# Altium schematic symbol library USB2.0_HUB_CONN.SchLib: 7 symbols
Pins are listed as number, name and electrical type; pins without a type are passive.

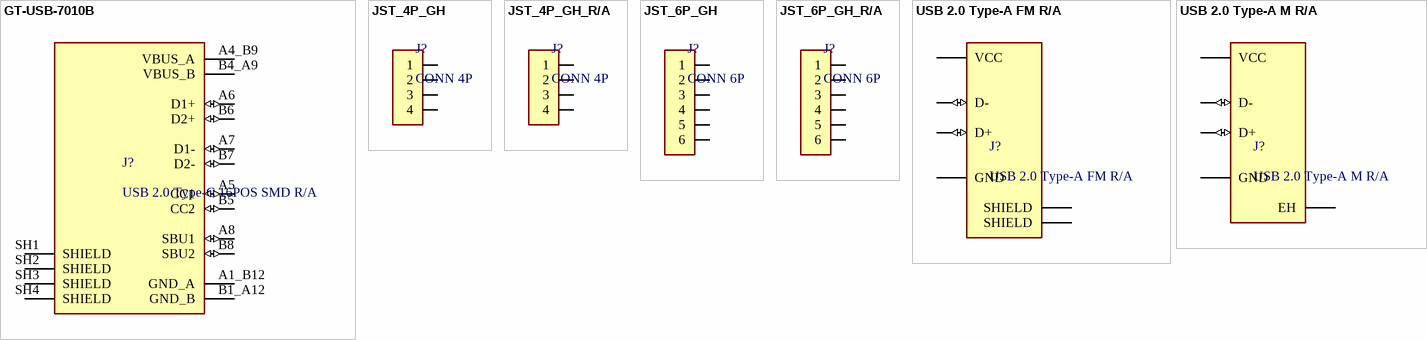
[diagram p0: symbols GT-USB-7010B to USB 2.0 Type-A M R/A]

## GT-USB-7010B
designator J?, comment USB 2.0 Type-C 16POS SMD R/A
USB-C (USB TYPE-C) Receptacle Connector 16 Position Surface Mount, Right Angle; Manufacturer: G-Switch; Manufacturer Part Number: GT-USB-7010ASV; DigiKey Part Number: *; LCSC Part Number: C2988369; Package: SMD; Mounting Type: SMD; ComponentLink1Description: Digikey Link; ComponentLink1URL: *; ComponentLink2Description: LCSC Link; ComponentLink2URL: https://www.lcsc.com/product-detail/C2988369.html?s_z=n_C2988369
footprint GT-USB-7010B
pins: A1_B12 GND_A (power), A4_B9 VBUS_A (power), A5 CC1 (io), A6 D1+ (io), A7 D1- (io), A8 SBU1 (io), B1_A12 GND_B (power), B4_A9 VBUS_B (power), B5 CC2 (io), B6 D2+ (io), B7 D2- (io), B8 SBU2 (io), SH1 SHIELD, SH2 SHIELD, SH3 SHIELD, SH4 SHIELD

## JST_4P_GH
designator J?, comment CONN 4P
CONN HEADER SMD 4POS 1.25mm; Manufacturer: Hong Cheng; Manufacturer Part Number: HCZZ0494-4; LCSC Part Number: C7433500; Package: SMD,p=1.25mm; ComponentLink1Description: Digikey Link; Mounting Type: SMD; ComponentLink2Description: LCSC Link; ComponentLink2URL: https://www.lcsc.com/product-detail/C7433500.html?s_z=n_4%2520P%2520GH
footprint JST_4P_GH
pins: 1, 2, 3, 4

## JST_4P_GH_R/A
designator J?, comment CONN 4P
Connector Header 4 position 1.25mm Pitch 1A Surface Mount, Right Angle -25℃~+85℃; Manufacturer: XUNPU; Manufacturer Part Number: WAFER-GH1.25-4PWB; LCSC Part Number: C3029379; Package: SMD,P=1.25mm,Surface Mount,Right Angle; ComponentLink1Description: Digikey Link; Mounting Type: SMD; ComponentLink2Description: LCSC Link; ComponentLink2URL: https://www.lcsc.com/product-detail/C3029379.html?spm=wm.fly.bg.0.xh&lcsc_vid=QlAIX1RQQQJfX1VRTwcNAQJXTlRaUQBVEQBYAwJfFFcxVlNRQ1deVldfQ1JYVTtW
footprint JST_4P_GH_R/A
pins: 1, 2, 3, 4

## JST_6P_GH
designator J?, comment CONN 6P
CONN HEADER SMD 6POS 1.25mm; Manufacturer: FG; Manufacturer Part Number: GH-6PLT; LCSC Part Number: C2763661; Package: SMD,P=1.25mm; ComponentLink1Description: Digikey Link; Mounting Type: SMD; ComponentLink2Description: LCSC Link; ComponentLink2URL: https://www.lcsc.com/product-detail/C2763661.html
footprint JST_6P_GH
pins: 1, 2, 3, 4, 5, 6

## JST_6P_GH_R/A
designator J?, comment CONN 6P
Connector Header 6 position 1.25mm Pitch 1A Surface Mount, Right Angle -25℃~+85℃; Manufacturer: SHOU HAN; Manufacturer Part Number: 1.25-6PWTDK; LCSC Part Number: C3008556; Package: SMD,P=1.25mm,Surface Mount,Right Angle; ComponentLink1Description: Digikey Link; Mounting Type: SMD; ComponentLink2Description: LCSC Link; ComponentLink2URL: https://www.lcsc.com/product-detail/C3008556.html?spm=wm.fly.bg.0.xh&lcsc_vid=QlAIX1RQQQJfX1VRTwcNAQJXTlRaUQBVEQBYAwJfFFcxVlNRQ1deVldfQ1JYVTtW
footprint JST_6P_GH_W/A
pins: 1, 2, 3, 4, 5, 6

## USB 2.0 Type-A FM R/A
designator J?
USB-A (USB TYPE-A) Receptacle Connector 4 Position Surface Mount, Right Angle; Manufacturer: SHOU HAN; Manufacturer Part Number: 10.0 QHHTZB6.3; LCSC Part Number: C668591; Package: SMD; ComponentLink1Description: Digikey Link; ComponentLink2Description: LCSC Link; ComponentLink2URL: https://www.lcsc.com/product-detail/C668591.html; Mounting Type: SMD
footprint Femalem USB 2.0 Type-A 4POS SMD R/A (Female)
pins: 1 VCC (power), 2 D- (io), 3 D+ (io), 4 GND (power), 5 SHIELD, 6 SHIELD

## USB 2.0 Type-A M R/A
designator J?
USB-A (USB TYPE-A) Receptacle Connector 4 Position Surface Mount, Right Angle; Manufacturer: XUNPU; Manufacturer Part Number: USB-212-BCW; LCSC Part Number: C720521; Package: SMD; ComponentLink1Description: Digikey Link; ComponentLink2Description: LCSC Link; ComponentLink2URL: https://www.lcsc.com/product-detail/C720521.html?spm=wm.fly.bg.0.xh&lcsc_vid=QlAIX1RQQQJfX1VRTwcNAQJXTlRaUQBVEQBYAwJfFFcxVlNRQ1hdVF1eQ1lbUztW; Mounting Type: SMD
footprint Male USB 2.0 Type-A 4POS SMD R/A
pins: 1 VCC (power), 2 D- (io), 3 D+ (io), 4 GND (power), 5 EH